# Altium footprint library Conn.Molex.PcbLib: 79 footprints (part 5 of 5)
Each footprint in its own frame and in the unit in brackets; x right, y up, seen from the top. Pads: shape width x height; smd on the part's side, far side on the other; paste and mask are expansions set on the pad; w line width, h text height; cw(c..) or ccw(c..) is an arc to the next point about the centre after c.
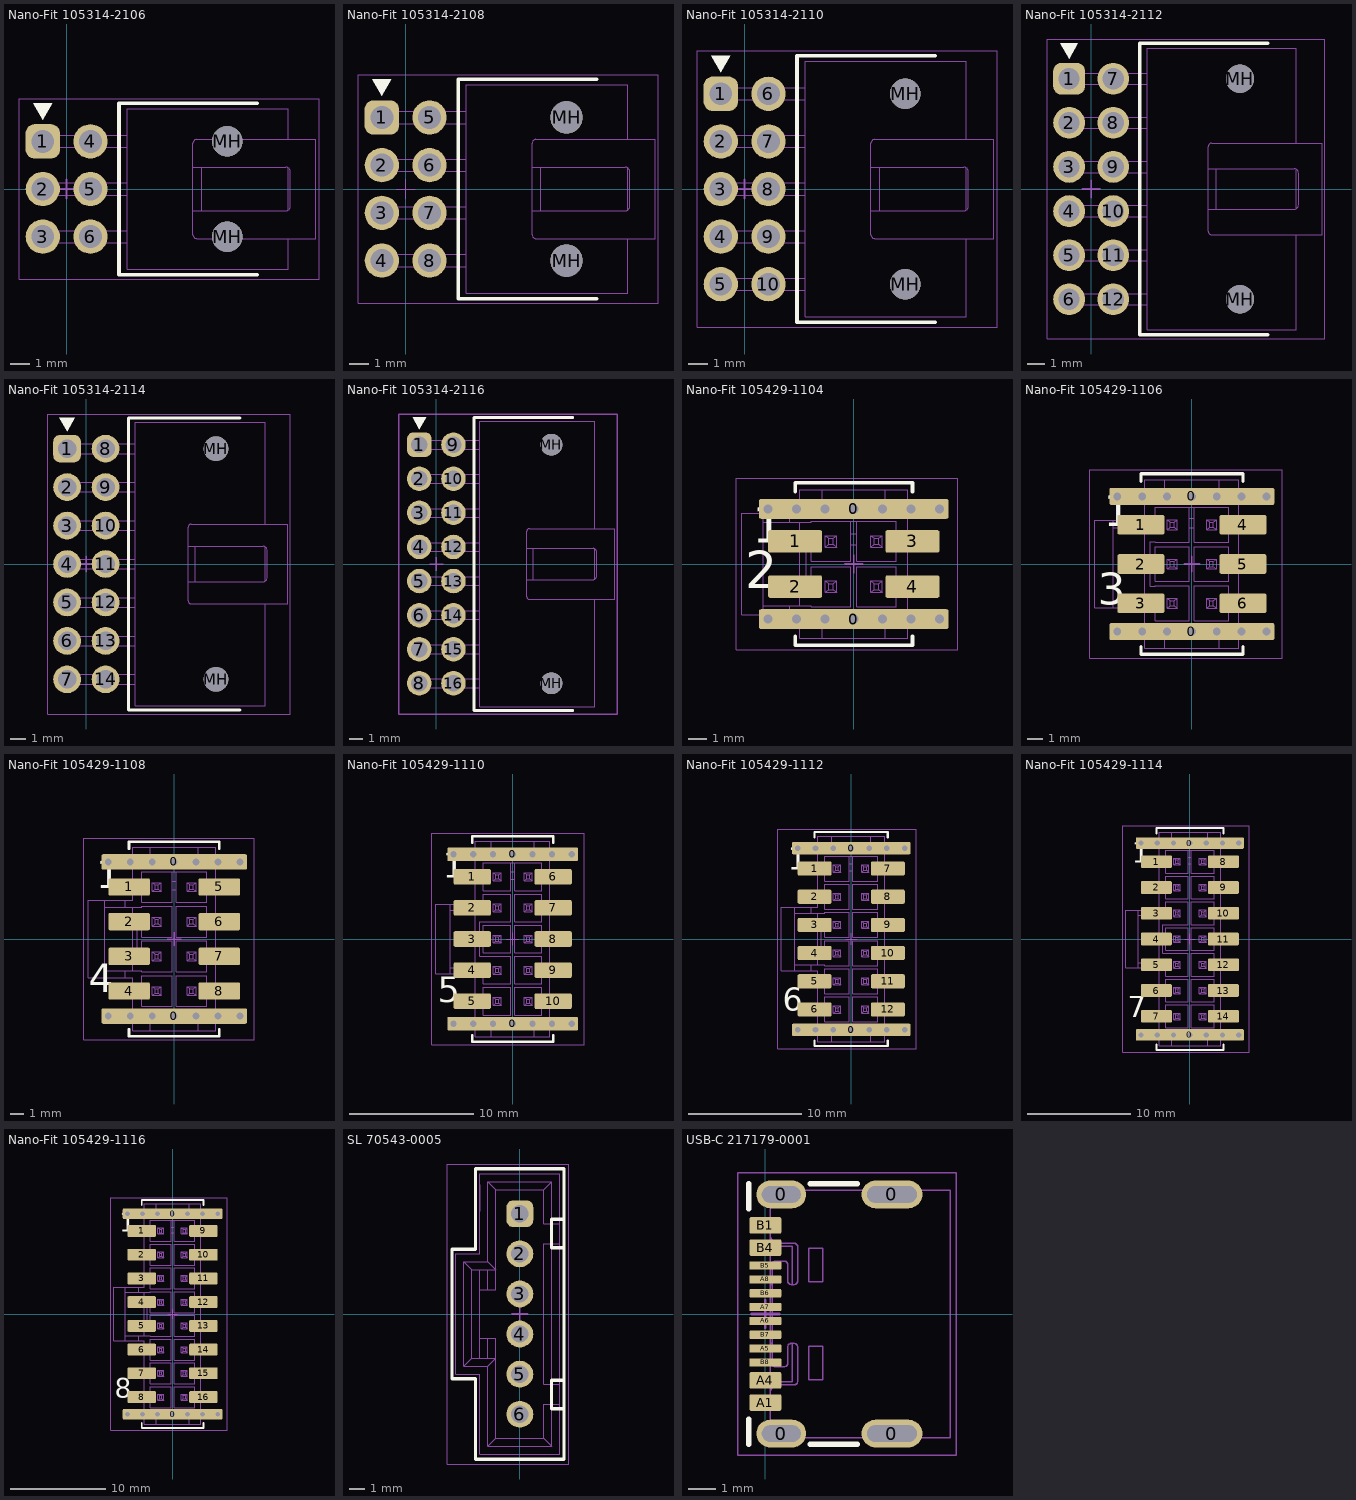
[diagram p4: the footprints below, top view; thin cyan lines are the x and y axes]

## Nano-Fit 105314-2106 [mm] "Nano-Fit Header, Dual Row, 6-Lead, 2.50mm Pitch"
height 9.14
pads (8):
  rrect50% 1.8x1.8 hole 1.2: 1(-1.25,2.5)
  round 1.8 hole 1.2: 2(-1.25,0) 3(-1.25,-2.5) 4(1.25,2.5) 5(1.25,0) 6(1.25,-2.5)
  round 1.6 hole 1.6 unplated: MH(8.43,-2.5) MH(8.43,2.5)
Top Overlay:
  region: -1.25,3.634 -0.75,4.5 -1.75,4.5
  lines w0.2: 10,-4.5 2.75,-4.5 2.75,4.5 10,4.5
Mechanical 1:
  lines w0.05: -0.633,-2.818 -0.633,-2.183 ; -0.633,-0.318 -0.633,0.318 ; -0.633,2.183 -0.633,2.818 ; 3.17,-2.818 -1.568,-2.818 -1.568,-2.183 3.17,-2.183 ; 3.17,-0.318 -1.568,-0.318 -1.568,0.318 3.17,0.318 ; 3.17,2.183 -1.568,2.183 -1.568,2.818 3.17,2.818 ; 6.63,-1.15 11.5,-1.15 ccw(c11.5,-0.9) 11.75,-0.9 11.75,0.9 ccw(c11.5,0.9) 11.5,1.15 6.63,1.15 ; 7.09,-1.15 7.09,1.15 ; 11.63,-2.6 11.63,-4.22 3.17,-4.22 3.17,4.22 11.63,4.22 11.63,2.6 ; 11.63,-1.114 11.63,1.114 ; 6.63,-2.4 ccw(c6.83,-2.4) 6.83,-2.6 13.09,-2.6 13.09,2.6 6.83,2.6 ccw(c6.83,2.4) 6.63,2.4 6.63,-2.4
Mechanical 15:
  lines w0.05: -2.5,-4.75 13.25,-4.75 13.25,4.75 -2.5,4.75 -2.5,-4.75
  lines w0.1: -0.5,0 0.5,0 ; 0,-0.5 0,0.5
3D body "Nano-Fit 105314-2106.stp": height 9.14, standoff -3.2, extent -1.567,-4.22 13.09,4.22

## Nano-Fit 105314-2108 [mm] "Molex Nano-Fit Header, 8-Pin, 2.5mm Pitch"
height 9.14
pads (10):
  rrect50% 1.8x1.8 hole 1.2: 1(-1.25,3.75)
  round 1.8 hole 1.2: 2(-1.25,1.25) 3(-1.25,-1.25) 4(-1.25,-3.75) 5(1.25,3.75) 6(1.25,1.25) 7(1.25,-1.25) 8(1.25,-3.75)
  round 1.7 hole 1.7 unplated: MH(8.43,-3.75) MH(8.43,3.75)
Top Overlay:
  region: -1.25,4.884 -0.75,5.75 -1.75,5.75
  lines w0.2: 10,-5.75 2.75,-5.75 2.75,5.75 10,5.75
Mechanical 1:
  lines w0.05: -0.632,-4.067 -0.632,-3.432 ; -0.632,-1.567 -0.632,-0.932 ; -0.632,0.933 -0.632,1.568 ; -0.632,3.433 -0.632,4.068 ; 3.17,-4.067 -1.567,-4.067 -1.567,-3.432 3.17,-3.432 ; 3.17,-1.567 -1.567,-1.567 -1.567,-0.932 3.17,-0.932 ; 3.17,0.933 -1.567,0.933 -1.567,1.568 3.17,1.568 ; 3.17,3.433 -1.567,3.433 -1.567,4.068 3.17,4.068 ; 6.63,-1.15 11.5,-1.15 ccw(c11.5,-0.9) 11.75,-0.9 11.75,0.9 ccw(c11.5,0.9) 11.5,1.15 6.63,1.15 ; 7.09,-1.15 7.09,1.15 ; 11.63,-2.6 11.63,-5.47 3.17,-5.47 3.17,5.47 11.63,5.47 11.63,2.6 ; 11.63,-1.113 11.63,1.114 ; 6.63,-2.4 ccw(c6.83,-2.4) 6.83,-2.6 13.09,-2.6 13.09,2.6 6.83,2.6 ccw(c6.83,2.4) 6.63,2.4 6.63,-2.4
Mechanical 15:
  lines w0.05: -0.5,0 0.5,0 ; 0,-0.5 0,0.5 ; -2.5,-6 -2.5,6 13.225,6 13.225,-6 -2.5,-6
3D body "Nano-Fit 105314-2108.stp": height 9.14, standoff -3.2, extent -1.567,-5.47 13.09,5.47

## Nano-Fit 105314-2110 [mm] "Nano-Fit Header, Dual Row, 10-Lead, 2.50mm Pitch"
height 9.14
pads (12):
  rrect50% 1.8x1.8 hole 1.2: 1(-1.25,5)
  round 1.8 hole 1.2: 2(-1.25,2.5) 3(-1.25,0) 4(-1.25,-2.5) 5(-1.25,-5) 6(1.25,5) 7(1.25,2.5) 8(1.25,0) 9(1.25,-2.5) 10(1.25,-5)
  round 1.6 hole 1.6 unplated: MH(8.43,-5) MH(8.43,5)
Top Overlay:
  region: -1.25,6.134 -0.75,7 -1.75,7
  lines w0.2: 10,-7 2.75,-7 2.75,7 10,7
Mechanical 1:
  lines w0.05: -0.633,-5.318 -0.633,-4.683 ; -0.633,-2.818 -0.633,-2.183 ; -0.633,-0.318 -0.633,0.318 ; -0.633,2.183 -0.633,2.818 ; -0.633,4.683 -0.633,5.318 ; 3.17,-5.318 -1.568,-5.318 -1.568,-4.683 3.17,-4.683 ; 3.17,-2.818 -1.568,-2.818 -1.568,-2.183 3.17,-2.183 ; 3.17,-0.318 -1.568,-0.318 -1.568,0.318 3.17,0.318 ; 3.17,2.183 -1.568,2.183 -1.568,2.818 3.17,2.818 ; 3.17,4.683 -1.568,4.683 -1.568,5.318 3.17,5.318 ; 6.63,-1.15 11.5,-1.15 ccw(c11.5,-0.9) 11.75,-0.9 11.75,0.9 ccw(c11.5,0.9) 11.5,1.15 6.63,1.15 ; 7.09,-1.15 7.09,1.15 ; 11.63,-2.6 11.63,-6.72 3.17,-6.72 3.17,6.72 11.63,6.72 11.63,2.6 ; 11.63,-1.114 11.63,1.114 ; 6.63,-2.4 ccw(c6.83,-2.4) 6.83,-2.6 13.09,-2.6 13.09,2.6 6.83,2.6 ccw(c6.83,2.4) 6.63,2.4 6.63,-2.4
Mechanical 15:
  lines w0.05: -2.5,-7.25 13.25,-7.25 13.25,7.25 -2.5,7.25 -2.5,-7.25
  lines w0.1: -0.5,0 0.5,0 ; 0,-0.5 0,0.5
3D body "Nano-Fit 105314-2110.stp": height 9.14, standoff -3.2, extent -1.567,-6.72 13.09,6.72

## Nano-Fit 105314-2112 [mm] "Nano-Fit Header, Dual Row, 12-Lead, 2.50mm Pitch"
height 9.14
pads (14):
  rrect50% 1.8x1.8 hole 1.2: 1(-1.25,6.25)
  round 1.8 hole 1.2: 2(-1.25,3.75) 3(-1.25,1.25) 4(-1.25,-1.25) 5(-1.25,-3.75) 6(-1.25,-6.25) 7(1.25,6.25) 8(1.25,3.75) 9(1.25,1.25) 10(1.25,-1.25) 11(1.25,-3.75) 12(1.25,-6.25)
  round 1.6 hole 1.6 unplated: MH(8.43,-6.25) MH(8.43,6.25)
Top Overlay:
  region: -1.25,7.384 -0.75,8.25 -1.75,8.25
  lines w0.2: 10,-8.25 2.75,-8.25 2.75,8.25 10,8.25
Mechanical 1:
  lines w0.05: -0.632,-6.567 -0.632,-5.932 ; -0.632,-4.067 -0.632,-3.432 ; -0.632,-1.567 -0.632,-0.932 ; -0.632,0.933 -0.632,1.568 ; -0.632,3.433 -0.632,4.068 ; -0.632,5.933 -0.632,6.568 ; 3.17,-6.567 -1.567,-6.567 -1.567,-5.932 3.17,-5.932 ; 3.17,-4.067 -1.567,-4.067 -1.567,-3.432 3.17,-3.432 ; 3.17,-1.567 -1.567,-1.567 -1.567,-0.932 3.17,-0.932 ; 3.17,0.933 -1.567,0.933 -1.567,1.568 3.17,1.568 ; 3.17,3.433 -1.567,3.433 -1.567,4.068 3.17,4.068 ; 3.17,5.933 -1.567,5.933 -1.567,6.568 3.17,6.568 ; 6.63,-1.15 11.5,-1.15 ccw(c11.5,-0.9) 11.75,-0.9 11.75,0.9 ccw(c11.5,0.9) 11.5,1.15 6.63,1.15 ; 7.09,-1.15 7.09,1.15 ; 11.63,-2.6 11.63,-7.97 3.17,-7.97 3.17,7.97 11.63,7.97 11.63,2.6 ; 11.63,-1.113 11.63,1.114 ; 6.63,-2.4 ccw(c6.83,-2.4) 6.83,-2.6 13.09,-2.6 13.09,2.6 6.83,2.6 ccw(c6.83,2.4) 6.63,2.4 6.63,-2.4
Mechanical 15:
  lines w0.05: -2.5,-8.5 13.25,-8.5 13.25,8.5 -2.5,8.5 -2.5,-8.5
  lines w0.1: -0.5,0 0.5,0 ; 0,-0.5 0,0.5
3D body "Nano-Fit 105314-2112.stp": height 9.14, standoff -3.2, extent -1.567,-7.97 13.09,7.97

## Nano-Fit 105314-2114 [mm] "Nano-Fit Header, Dual Row, 14-Lead, 2.50mm Pitch"
height 9.14
pads (16):
  rrect50% 1.8x1.8 hole 1.2: 1(-1.25,7.5)
  round 1.8 hole 1.2: 2(-1.25,5) 3(-1.25,2.5) 4(-1.25,0) 5(-1.25,-2.5) 6(-1.25,-5) 7(-1.25,-7.5) 8(1.25,7.5) 9(1.25,5) 10(1.25,2.5) 11(1.25,0) 12(1.25,-2.5) 13(1.25,-5) 14(1.25,-7.5)
  round 1.6 hole 1.6 unplated: MH(8.43,-7.5) MH(8.43,7.5)
Top Overlay:
  region: -1.25,8.634 -0.75,9.5 -1.75,9.5
  lines w0.2: 10,-9.5 2.75,-9.5 2.75,9.5 10,9.5
Mechanical 1:
  lines w0.05: -0.633,-7.818 -0.633,-7.183 ; -0.633,-5.318 -0.633,-4.683 ; -0.633,-2.818 -0.633,-2.183 ; -0.633,-0.318 -0.633,0.318 ; -0.633,2.183 -0.633,2.818 ; -0.633,4.683 -0.633,5.318 ; -0.633,7.183 -0.633,7.818 ; 3.17,-7.818 -1.568,-7.818 -1.568,-7.183 3.17,-7.183 ; 3.17,-5.318 -1.568,-5.318 -1.568,-4.683 3.17,-4.683 ; 3.17,-2.818 -1.568,-2.818 -1.568,-2.183 3.17,-2.183 ; 3.17,-0.318 -1.568,-0.318 -1.568,0.318 3.17,0.318 ; 3.17,2.183 -1.568,2.183 -1.568,2.818 3.17,2.818 ; 3.17,4.683 -1.568,4.683 -1.568,5.318 3.17,5.318 ; 3.17,7.183 -1.568,7.183 -1.568,7.818 3.17,7.818 ; 6.63,-1.15 11.5,-1.15 ccw(c11.5,-0.9) 11.75,-0.9 11.75,0.9 ccw(c11.5,0.9) 11.5,1.15 6.63,1.15 ; 7.09,-1.15 7.09,1.15 ; 11.63,-2.6 11.63,-9.22 3.17,-9.22 3.17,9.22 11.63,9.22 11.63,2.6 ; 11.63,-1.114 11.63,1.114 ; 6.63,-2.4 ccw(c6.83,-2.4) 6.83,-2.6 13.09,-2.6 13.09,2.6 6.83,2.6 ccw(c6.83,2.4) 6.63,2.4 6.63,-2.4
Mechanical 15:
  lines w0.05: -2.5,-9.75 13.25,-9.75 13.25,9.75 -2.5,9.75 -2.5,-9.75
  lines w0.1: -0.5,0 0.5,0 ; 0,-0.5 0,0.5
3D body "Nano-Fit 105314-2114.stp": height 9.14, standoff -3.2, extent -1.567,-9.22 13.09,9.22

## Nano-Fit 105314-2116 [mm] "Molex Nano-Fit Header, 16-Pin, 2.5mm Pitch"
height 9.14
pads (18):
  rrect50% 1.8x1.8 hole 1.2: 1(-1.25,8.75)
  round 1.8 hole 1.2: 2(-1.25,6.25) 3(-1.25,3.75) 4(-1.25,1.25) 5(-1.25,-1.25) 6(-1.25,-3.75) 7(-1.25,-6.25) 8(-1.25,-8.75) 9(1.25,8.75) 10(1.25,6.25) 11(1.25,3.75) 12(1.25,1.25) 13(1.25,-1.25) 14(1.25,-3.75) 15(1.25,-6.25) 16(1.25,-8.75)
  round 1.6 hole 1.6 unplated: MH(8.43,-8.75) MH(8.43,8.75)
Top Overlay:
  region: -1.25,9.884 -0.75,10.75 -1.75,10.75
  lines w0.2: 10,-10.75 2.75,-10.75 2.75,10.75 10,10.75
Mechanical 1:
  lines w0.05: 3.17,-9.068 -0.633,-9.068 -1.568,-9.068 -1.568,-8.433 -0.633,-8.433 3.17,-8.433 ; 3.17,-6.568 -0.633,-6.568 -1.568,-6.568 -1.568,-5.933 -0.633,-5.933 3.17,-5.933 ; 3.17,-4.068 -0.633,-4.068 -1.568,-4.068 -1.568,-3.433 -0.633,-3.433 3.17,-3.433 ; 3.17,-1.568 -0.633,-1.568 -1.568,-1.568 -1.568,-0.933 -0.633,-0.933 3.17,-0.933 ; 3.17,0.933 -0.633,0.933 -1.568,0.933 -1.568,1.568 -0.633,1.568 3.17,1.568 ; 3.17,3.433 -0.633,3.433 -1.568,3.433 -1.568,4.068 -0.633,4.068 3.17,4.068 ; 3.17,5.933 -0.633,5.933 -1.568,5.933 -1.568,6.568 -0.633,6.568 3.17,6.568 ; 3.17,8.433 -0.633,8.433 -1.568,8.433 -1.568,9.068 -0.633,9.068 3.17,9.068 ; 7.09,-1.15 7.09,1.15 ; 11.63,-2.6 11.63,-10.47 3.17,-10.47 3.17,10.47 11.63,10.47 11.63,2.6 ; 11.63,-1.114 11.63,1.114 ; 6.63,-1.15 6.83,-1.15 11.5,-1.15 ccw(c11.5,-0.9) 11.75,-0.9 11.75,0.9 ccw(c11.5,0.9) 11.5,1.15 6.83,1.15 6.63,1.15 ; 6.63,-1.15 6.63,1.15 ; 6.63,-1.15 6.63,-2.4 ccw(c6.83,-2.4) 6.83,-2.6 13.09,-2.6 13.09,-2.4 13.09,2.4 13.09,2.6 6.83,2.6 ccw(c6.83,2.4) 6.63,2.4 6.63,1.15
Mechanical 15:
  lines w0.1: -0.5,0 0.5,0 ; 0,-0.5 0,0.5 ; -2.75,-11 13.25,-11 13.25,11 -2.75,11 -2.75,-11
3D body "Nano-Fit 105314-2116.stp": height 9.15, standoff -3.19, extent -1.567,-10.47 13.09,10.47

## Nano-Fit 105429-1104 [mm] "Molex Nano-Fit Header, 4-Pin, 2.5mm Pitch"
height 9.7
pads (6):
  rrect20% 10.5x1.1 smd: 0(0,-3.055) 0(0,3.055)
  rrect20% 3x1.25 smd: 1(-3.25,1.25) 2(-3.25,-1.25) 3(3.25,1.25) 4(3.25,-1.25)
via 4.75,3.055 diameter 1 hole 0.5
via -4.75,3.055 diameter 1 hole 0.5
via 0,3.055 diameter 1 hole 0.5
via 3.167,3.055 diameter 1 hole 0.5
via 1.583,3.055 diameter 1 hole 0.5
via -3.167,3.055 diameter 1 hole 0.5
via -1.583,3.055 diameter 1 hole 0.5
via 4.75,-3.055 diameter 1 hole 0.5
via -4.75,-3.055 diameter 1 hole 0.5
via 0,-3.055 diameter 1 hole 0.5
via 3.167,-3.055 diameter 1 hole 0.5
via 1.583,-3.055 diameter 1 hole 0.5
via -3.167,-3.055 diameter 1 hole 0.5
via -1.583,-3.055 diameter 1 hole 0.5
Top Overlay:
  lines w0.2: -3.25,-4 -3.25,-4.5 3.25,-4.5 3.25,-4 ; -3.25,4 -3.25,4.5 3.25,4.5 3.25,4
  text "2" at -6.011,-2.022 h3.5
  text "1" at -5.629,0.487 h3.5
Mechanical 1:
  lines w0.05: -5,-2.8 -5,2.8 ; -5,-2.3 -2.345,-2.3 -2.345,-2.36 -0.155,-2.36 -0.155,-0.14 -2.345,-0.14 -2.345,-1.33 -2.645,-1.33 -2.645,1.33 -2.345,1.33 -2.345,0.14 -0.155,0.14 -0.155,2.36 ; -5,2.3 -2.345,2.3 -2.345,2.36 2.345,2.36 2.345,0.14 0.155,0.14 0.155,2.36 ; -4.35,-3.305 -4.35,-2.805 ; -4.35,2.805 -4.35,3.305 ; -4.05,-1.568 -4.05,-0.933 ; -4.05,0.933 -4.05,1.568 ; -3.54,-2.8 -3.54,-2.3 ; -3.54,2.3 -3.54,2.8 ; -2.99,-3.305 -4.55,-3.305 -4.55,-2.805 -2.99,-2.805 ; -2.99,-3 -1.74,-3 -1.74,-4.115 ; -2.99,-2.3 -2.99,2.3 ; -2.99,-1.568 -4.25,-1.568 -4.25,-0.933 -2.99,-0.933 ; -2.99,0.933 -4.25,0.933 -4.25,1.568 -2.99,1.568 ; -2.99,2.805 -4.55,2.805 -4.55,3.305 -2.99,3.305 ; -2.99,3 -1.74,3 -1.74,4.115 ; -0.155,1.065 0.155,1.065 ; -0.155,1.665 0.155,1.665 ; 1.74,-4.115 1.74,-3 2.99,-3 ; 1.74,4.115 1.74,3 2.99,3 ; 2.99,-3.305 4.55,-3.305 4.55,-2.805 2.99,-2.805 ; 2.99,-1.568 4.25,-1.568 4.25,-0.933 2.99,-0.933 ; 2.99,0.933 4.25,0.933 4.25,1.568 2.99,1.568 ; 2.99,2.805 4.55,2.805 4.55,3.305 2.99,3.305 ; 4.05,-1.568 4.05,-0.933 ; 4.05,0.933 4.05,1.568 ; 4.35,-3.305 4.35,-2.805 ; 4.35,2.805 4.35,3.305 ; -1.572,-1.568 -1.572,-0.933 ; -1.572,-1.568 -0.933,-1.568 ; -1.572,-1.568 -1.372,-1.418 ; -1.572,-0.933 -0.933,-0.933 ; -1.572,-0.933 -1.372,-1.082 ; -1.572,0.933 -1.572,1.568 ; -1.572,0.933 -0.933,0.933 ; -1.572,0.933 -1.372,1.082 ; -1.572,1.568 -0.933,1.568 ; -1.572,1.568 -1.372,1.418 ; -1.372,-1.418 -1.372,-1.082 ; -1.372,-1.418 -1.132,-1.418 ; -1.372,-1.082 -1.132,-1.082 ; -1.372,1.082 -1.372,1.418 ; -1.372,1.082 -1.132,1.082 ; -1.372,1.418 -1.132,1.418 ; -1.132,-1.418 -1.132,-1.082 ; -1.132,-1.418 -0.933,-1.568 ; -1.132,-1.082 -0.933,-0.933 ; -1.132,1.082 -1.132,1.418 ; -1.132,1.082 -0.933,0.933 ; -1.132,1.418 -0.933,1.568 ; -0.933,-1.568 -0.933,-0.933 ; -0.933,0.933 -0.933,1.568 ; 0.933,-1.568 1.572,-1.568 ; 0.933,-1.568 0.933,-0.933 ; 0.933,-1.568 1.132,-1.418 ; 0.933,-0.933 1.572,-0.933 ; 0.933,-0.933 1.132,-1.082 ; 0.933,0.933 1.572,0.933 ; 0.933,0.933 0.933,1.568 ; 0.933,0.933 1.132,1.082 ; 0.933,1.568 1.572,1.568 ; 0.933,1.568 1.132,1.418 ; 1.132,-1.418 1.132,-1.082 ; 1.132,-1.418 1.372,-1.418 ; 1.132,-1.082 1.372,-1.082 ; 1.132,1.082 1.132,1.418 ; 1.132,1.082 1.372,1.082 ; 1.132,1.418 1.372,1.418 ; 1.372,-1.418 1.572,-1.568 ; 1.372,-1.418 1.372,-1.082 ; 1.372,-1.082 1.572,-0.933 ; 1.372,1.082 1.572,0.933 ; 1.372,1.082 1.372,1.418 ; 1.372,1.418 1.572,1.568 ; 1.572,-1.568 1.572,-0.933 ; 1.572,0.933 1.572,1.568 ; -6.2,-2.8 -6.2,2.8 -2.99,2.8 -2.99,4.115 2.99,4.115 2.99,-4.115 -2.99,-4.115 -2.99,-2.8 -6.2,-2.8 ; 0.155,-2.36 0.155,-0.14 2.345,-0.14 2.345,-2.36 0.155,-2.36
Mechanical 15:
  lines w0.05: -6.5,-4.75 -6.5,4.75 5.75,4.75 5.75,-4.75 -6.5,-4.75
  lines w0.1: -0.5,0 0.5,0 ; 0,-0.5 0,0.5
3D body "Nano-Fit 105429-1104.stp": height 11.16, standoff 0, extent -6.2,-4.115 4.55,4.115

## Nano-Fit 105429-1106 [mm] "Molex Nano-Fit Header, 6-Pin, 2.5mm Pitch"
height 9.7
pads (8):
  rrect20% 10.5x1.1 smd: 0(0,-4.305) 0(0,4.305)
  rrect20% 3x1.25 smd: 1(-3.25,2.5) 2(-3.25,0) 3(-3.25,-2.5) 4(3.25,2.5) 5(3.25,0) 6(3.25,-2.5)
via -1.583,-4.305 diameter 1 hole 0.5
via -3.167,-4.305 diameter 1 hole 0.5
via 1.583,-4.305 diameter 1 hole 0.5
via 3.167,-4.305 diameter 1 hole 0.5
via 0,-4.305 diameter 1 hole 0.5
via -4.75,-4.305 diameter 1 hole 0.5
via 4.75,-4.305 diameter 1 hole 0.5
via -1.583,4.305 diameter 1 hole 0.5
via -3.167,4.305 diameter 1 hole 0.5
via 1.583,4.305 diameter 1 hole 0.5
via 3.167,4.305 diameter 1 hole 0.5
via 0,4.305 diameter 1 hole 0.5
via -4.75,4.305 diameter 1 hole 0.5
via 4.75,4.305 diameter 1 hole 0.5
Top Overlay:
  lines w0.2: -3.25,-5.25 -3.25,-5.75 3.25,-5.75 3.25,-5.25 ; -3.25,5.25 -3.25,5.75 3.25,5.75 3.25,5.25
  text "1" at -5.629,1.737 h3.5
  text "3" at -6.008,-3.264 h3.5
Mechanical 1:
  drawing of 168 lines, arcs and shapes, not listed
Mechanical 15:
  lines w0.05: -6.5,-6 5.75,-6 5.75,6 -6.5,6 -6.5,-6
  lines w0.1: -0.5,0 0.5,0 ; 0,-0.5 0,0.5
3D body "Nano-Fit 105429-1106.stp": height 11.16, standoff 0, extent -6.2,-5.365 4.55,5.365

## Nano-Fit 105429-1108 [mm] "Molex Nano-Fit Header, 8-Pin, 2.5mm Pitch"
height 9.7
pads (10):
  rrect20% 10.5x1.1 smd: 0(0,-5.555) 0(0,5.555)
  rrect20% 3x1.25 smd: 1(-3.25,3.75) 2(-3.25,1.25) 3(-3.25,-1.25) 4(-3.25,-3.75) 5(3.25,3.75) 6(3.25,1.25) 7(3.25,-1.25) 8(3.25,-3.75)
via -1.583,-5.555 diameter 1 hole 0.5
via -3.167,-5.555 diameter 1 hole 0.5
via 1.583,-5.555 diameter 1 hole 0.5
via 3.167,-5.555 diameter 1 hole 0.5
via 0,-5.555 diameter 1 hole 0.5
via -4.75,-5.555 diameter 1 hole 0.5
via 4.75,-5.555 diameter 1 hole 0.5
via -1.583,5.555 diameter 1 hole 0.5
via -3.167,5.555 diameter 1 hole 0.5
via 1.583,5.555 diameter 1 hole 0.5
via 3.167,5.555 diameter 1 hole 0.5
via 0,5.555 diameter 1 hole 0.5
via -4.75,5.555 diameter 1 hole 0.5
via 4.75,5.555 diameter 1 hole 0.5
Top Overlay:
  lines w0.2: -3.25,-6.5 -3.25,-7 3.25,-7 3.25,-6.5 ; -3.25,6.5 -3.25,7 3.25,7 3.25,6.5
  text "1" at -5.629,2.987 h3.5
  text "4" at -6.141,-4.513 h3.5
Mechanical 1:
  drawing of 204 lines, arcs and shapes, not listed
Mechanical 15:
  lines w0.05: -6.5,-7.25 5.75,-7.25 5.75,7.25 -6.5,7.25 -6.5,-7.25
  lines w0.1: -0.5,0 0.5,0 ; 0,-0.5 0,0.5
3D body "Nano-Fit 105429-1108.stp": height 11.16, standoff 0, extent -6.2,-6.615 4.55,6.615

## Nano-Fit 105429-1110 [mm] "Molex Nano-Fit Header, 10-Pin, 2.5mm Pitch"
height 9.7
pads (12):
  rrect20% 10.5x1.1 smd: 0(0,-6.805) 0(0,6.805)
  rrect20% 3x1.25 smd: 1(-3.25,5) 2(-3.25,2.5) 3(-3.25,0) 4(-3.25,-2.5) 5(-3.25,-5) 6(3.25,5) 7(3.25,2.5) 8(3.25,0) 9(3.25,-2.5) 10(3.25,-5)
via 4.75,6.805 diameter 1 hole 0.5
via -4.75,6.805 diameter 1 hole 0.5
via 0,6.805 diameter 1 hole 0.5
via 3.167,6.805 diameter 1 hole 0.5
via 1.583,6.805 diameter 1 hole 0.5
via -3.167,6.805 diameter 1 hole 0.5
via -1.583,6.805 diameter 1 hole 0.5
via 4.75,-6.805 diameter 1 hole 0.5
via -4.75,-6.805 diameter 1 hole 0.5
via 0,-6.805 diameter 1 hole 0.5
via 3.167,-6.805 diameter 1 hole 0.5
via 1.583,-6.805 diameter 1 hole 0.5
via -3.167,-6.805 diameter 1 hole 0.5
via -1.583,-6.805 diameter 1 hole 0.5
Top Overlay:
  lines w0.2: -3.25,-7.75 -3.25,-8.25 3.25,-8.25 3.25,-7.75 ; -3.25,7.75 -3.25,8.25 3.25,8.25 3.25,7.75
  text "5" at -6.011,-5.755 h3.5
  text "1" at -5.629,4.237 h3.5
Mechanical 1:
  drawing of 248 lines, arcs and shapes, not listed
Mechanical 15:
  lines w0.05: -6.5,-8.5 -6.5,8.5 5.75,8.5 5.75,-8.5 -6.5,-8.5
  lines w0.1: -0.5,0 0.5,0 ; 0,-0.5 0,0.5
3D body "Nano-Fit 105429-1110.stp": height 11.16, standoff 0, extent -6.2,-7.865 4.55,7.865

## Nano-Fit 105429-1112 [mm] "Molex Nano-Fit Header, 12-Pin, 2.5mm Pitch"
height 9.7
pads (14):
  rrect20% 10.5x1.1 smd: 0(0,-8.055) 0(0,8.055)
  rrect20% 3x1.25 smd: 1(-3.25,6.25) 2(-3.25,3.75) 3(-3.25,1.25) 4(-3.25,-1.25) 5(-3.25,-3.75) 6(-3.25,-6.25) 7(3.25,6.25) 8(3.25,3.75) 9(3.25,1.25) 10(3.25,-1.25) 11(3.25,-3.75) 12(3.25,-6.25)
via 4.75,8.055 diameter 1 hole 0.5
via -4.75,8.055 diameter 1 hole 0.5
via 0,8.055 diameter 1 hole 0.5
via 3.167,8.055 diameter 1 hole 0.5
via 1.583,8.055 diameter 1 hole 0.5
via -3.167,8.055 diameter 1 hole 0.5
via -1.583,8.055 diameter 1 hole 0.5
via 4.75,-8.055 diameter 1 hole 0.5
via -4.75,-8.055 diameter 1 hole 0.5
via 0,-8.055 diameter 1 hole 0.5
via 3.167,-8.055 diameter 1 hole 0.5
via 1.583,-8.055 diameter 1 hole 0.5
via -3.167,-8.055 diameter 1 hole 0.5
via -1.583,-8.055 diameter 1 hole 0.5
Top Overlay:
  lines w0.2: -3.25,-9 -3.25,-9.5 3.25,-9.5 3.25,-9 ; -3.25,9 -3.25,9.5 3.25,9.5 3.25,9
  text "6" at -6.092,-7.014 h3.5
  text "1" at -5.629,5.487 h3.5
Mechanical 1:
  drawing of 284 lines, arcs and shapes, not listed
Mechanical 15:
  lines w0.05: -6.5,-9.75 -6.5,9.75 5.75,9.75 5.75,-9.75 -6.5,-9.75
  lines w0.1: -0.5,0 0.5,0 ; 0,-0.5 0,0.5
3D body "Nano-Fit 105429-1112.stp": height 11.16, standoff 0, extent -6.2,-9.115 4.55,9.115

## Nano-Fit 105429-1114 [mm] "Molex Nano-Fit Header, 14-Pin, 2.5mm Pitch"
height 9.7
pads (16):
  rrect20% 10.5x1.1 smd: 0(0,-9.305) 0(0,9.305)
  rrect20% 3x1.25 smd: 1(-3.25,7.5) 2(-3.25,5) 3(-3.25,2.5) 4(-3.25,0) 5(-3.25,-2.5) 6(-3.25,-5) 7(-3.25,-7.5) 8(3.25,7.5) 9(3.25,5) 10(3.25,2.5) 11(3.25,0) 12(3.25,-2.5) 13(3.25,-5) 14(3.25,-7.5)
via -1.583,-9.305 diameter 1 hole 0.5
via -3.167,-9.305 diameter 1 hole 0.5
via 1.583,-9.305 diameter 1 hole 0.5
via 3.167,-9.305 diameter 1 hole 0.5
via 0,-9.305 diameter 1 hole 0.5
via -4.75,-9.305 diameter 1 hole 0.5
via 4.75,-9.305 diameter 1 hole 0.5
via -1.583,9.305 diameter 1 hole 0.5
via -3.167,9.305 diameter 1 hole 0.5
via 1.583,9.305 diameter 1 hole 0.5
via 3.167,9.305 diameter 1 hole 0.5
via 0,9.305 diameter 1 hole 0.5
via -4.75,9.305 diameter 1 hole 0.5
via 4.75,9.305 diameter 1 hole 0.5
Top Overlay:
  lines w0.2: -3.25,-10.25 -3.25,-10.75 3.25,-10.75 3.25,-10.25 ; -3.25,10.25 -3.25,10.75 3.25,10.75 3.25,10.25
  text "1" at -5.629,6.737 h3.5
  text "7" at -6.021,-8.263 h3.5
Mechanical 1:
  drawing of 328 lines, arcs and shapes, not listed
Mechanical 15:
  lines w0.05: -6.5,-11 5.75,-11 5.75,11 -6.5,11 -6.5,-11
  lines w0.1: -0.5,0 0.5,0 ; 0,-0.5 0,0.5
3D body "Nano-Fit 105429-1114.stp": height 11.16, standoff 0, extent -6.2,-10.365 4.55,10.365

## Nano-Fit 105429-1116 [mm] "Molex Nano-Fit Header, 16-Pin, 2.5mm Pitch"
height 9.7
pads (18):
  rrect20% 10.5x1.1 smd: 0(0,-10.555) 0(0,10.555)
  rrect20% 3x1.25 smd: 1(-3.25,8.75) 2(-3.25,6.25) 3(-3.25,3.75) 4(-3.25,1.25) 5(-3.25,-1.25) 6(-3.25,-3.75) 7(-3.25,-6.25) 8(-3.25,-8.75) 9(3.25,8.75) 10(3.25,6.25) 11(3.25,3.75) 12(3.25,1.25) 13(3.25,-1.25) 14(3.25,-3.75) 15(3.25,-6.25) 16(3.25,-8.75)
via 4.75,10.555 diameter 1 hole 0.5
via -4.75,10.555 diameter 1 hole 0.5
via 0,10.555 diameter 1 hole 0.5
via 3.167,10.555 diameter 1 hole 0.5
via 1.583,10.555 diameter 1 hole 0.5
via -3.167,10.555 diameter 1 hole 0.5
via -1.583,10.555 diameter 1 hole 0.5
via 4.75,-10.555 diameter 1 hole 0.5
via -4.75,-10.555 diameter 1 hole 0.5
via 0,-10.555 diameter 1 hole 0.5
via 3.167,-10.555 diameter 1 hole 0.5
via 1.583,-10.555 diameter 1 hole 0.5
via -3.167,-10.555 diameter 1 hole 0.5
via -1.583,-10.555 diameter 1 hole 0.5
Top Overlay:
  lines w0.2: -3.25,-11.5 -3.25,-12 3.25,-12 3.25,-11.5 ; -3.25,11.5 -3.25,12 3.25,12 3.25,11.5
  text "8" at -6.115,-9.514 h3.5
  text "1" at -5.629,7.987 h3.5
Mechanical 1:
  drawing of 364 lines, arcs and shapes, not listed
Mechanical 15:
  lines w0.05: -6.5,-12.25 -6.5,12.25 5.75,12.25 5.75,-12.25 -6.5,-12.25
  lines w0.1: -0.5,0 0.5,0 ; 0,-0.5 0,0.5
3D body "Nano-Fit 105429-1116.stp": height 11.16, standoff 0, extent -6.2,-11.615 4.55,11.615

## SL 70543-0005 [mm] "Molex SL Header, 6-Pin, 2.54mm Pitch"
height 11.85
pads (6):
  rrect50% 1.7x1.7 hole 1.1: 1(0,6.35)
  round 1.7 hole 1.1: 2(0,3.81) 3(0,1.27) 4(0,-1.27) 5(0,-3.81) 6(0,-6.35)
Top Overlay:
  lines w0.2: 2.8,-6 2,-6 2,-4.2 2.8,-4.2 ; 2.8,4.2 2,4.2 2,6 2.8,6 ; -4.3,-4.1 -2.8,-4.1 -2.8,-9.2 2.8,-9.2 2.8,9.2 -2.8,9.2 -2.8,4.1 -4.3,4.1 -4.3,-4.1
Bottom Overlay:
  region: 0,7.35 -0.5,8.216 0.5,8.216
Mechanical 1:
  lines w0.05: -2.54,-2.794 -2.54,2.794 ; -2.54,-1.524 -1.524,-1.524 -1.524,-7.874 ; -2.54,1.524 -1.524,1.524 -1.524,7.874 ; -2.54,6.553 -2.515,6.553 -2.515,8.179 -2.54,8.179 ; -2.54,7.366 -2.515,7.366 ; -2.032,-2.794 -2.032,-1.524 ; -2.032,1.524 -2.032,2.794 ; 2.032,-5.715 2.032,-8.382 ; 2.032,-4.445 2.032,4.445 ; 2.032,5.715 2.032,8.382 ; 2.54,-5.715 1.524,-5.715 1.524,-7.874 ; 2.54,-4.445 1.524,-4.445 1.524,4.445 2.54,4.445 ; 2.54,5.715 1.524,5.715 1.524,7.874 ; -3.556,-3.302 -3.048,-2.794 ; -3.556,-3.302 -2.032,-3.302 ; -3.556,-3.302 -3.556,3.302 ; -3.556,3.302 -2.032,3.302 ; -3.556,3.302 -3.048,2.794 ; -3.048,-2.794 -1.524,-2.794 -2.032,-3.302 ; -3.048,-2.794 -3.048,2.794 ; -3.048,2.794 -1.524,2.794 -2.032,3.302 ; -2.032,-8.382 2.032,-8.382 ; -2.032,-8.382 -2.032,-3.302 ; -2.032,-8.382 -1.524,-7.874 ; -2.032,3.302 -2.032,8.382 ; -2.032,8.382 2.032,8.382 ; -2.032,8.382 -1.524,7.874 ; -1.524,-7.874 1.524,-7.874 ; -1.524,7.874 1.524,7.874 ; -0.318,-6.667 -0.318,-6.032 ; -0.318,-6.667 -0.114,-6.464 ; -0.318,-6.667 0.318,-6.667 ; -0.318,-6.032 0.318,-6.032 ; -0.318,-6.032 -0.114,-6.236 ; -0.318,-4.127 0.318,-4.127 ; -0.318,-4.127 -0.318,-3.492 ; -0.318,-4.127 -0.114,-3.924 ; -0.318,-3.492 0.318,-3.492 ; -0.318,-3.492 -0.114,-3.696 ; -0.318,-1.587 -0.318,-0.953 ; -0.318,-1.587 -0.114,-1.384 ; -0.318,-1.587 0.318,-1.587 ; -0.318,-0.953 0.318,-0.953 ; -0.318,-0.953 -0.114,-1.156 ; -0.318,0.953 0.318,0.953 ; -0.318,0.953 -0.318,1.587 ; -0.318,0.953 -0.114,1.156 ; -0.318,1.587 0.318,1.587 ; -0.318,1.587 -0.114,1.384 ; -0.318,3.492 -0.318,4.127 ; -0.318,3.492 -0.114,3.696 ; -0.318,3.492 0.318,3.492 ; -0.318,4.127 0.318,4.127 ; -0.318,4.127 -0.114,3.924 ; -0.318,6.032 -0.318,6.667 ; -0.318,6.032 -0.114,6.236 ; -0.318,6.032 0.318,6.032 ; -0.318,6.667 0.318,6.667 ; -0.318,6.667 -0.114,6.464 ; -0.114,-6.464 -0.114,-6.236 ; -0.114,-6.464 0.114,-6.464 ; -0.114,-6.236 0.114,-6.236 ; -0.114,-3.924 0.114,-3.924 ; -0.114,-3.924 -0.114,-3.696 ; -0.114,-3.696 0.114,-3.696 ; -0.114,-1.384 -0.114,-1.156 ; -0.114,-1.384 0.114,-1.384 ; -0.114,-1.156 0.114,-1.156 ; -0.114,1.156 0.114,1.156 ; -0.114,1.156 -0.114,1.384 ; -0.114,1.384 0.114,1.384 ; -0.114,3.696 0.114,3.696 ; -0.114,3.696 -0.114,3.924 ; -0.114,3.924 0.114,3.924 ; -0.114,6.236 -0.114,6.464 ; -0.114,6.236 0.114,6.236 ; -0.114,6.464 0.114,6.464 ; 0.114,-6.464 0.114,-6.236 ; 0.114,-6.464 0.318,-6.667 ; 0.114,-6.236 0.318,-6.032 ; 0.114,-3.924 0.318,-4.127 ; 0.114,-3.924 0.114,-3.696 ; 0.114,-3.696 0.318,-3.492 ; 0.114,-1.384 0.114,-1.156 ; 0.114,-1.384 0.318,-1.587 ; 0.114,-1.156 0.318,-0.953 ; 0.114,1.156 0.114,1.384 ; 0.114,1.156 0.318,0.953 ; 0.114,1.384 0.318,1.587 ; 0.114,3.696 0.318,3.492 ; 0.114,3.696 0.114,3.924 ; 0.114,3.924 0.318,4.127 ; 0.114,6.236 0.114,6.464 ; 0.114,6.236 0.318,6.032 ; 0.114,6.464 0.318,6.667 ; 0.318,-6.667 0.318,-6.032 ; 0.318,-4.127 0.318,-3.492 ; 0.318,-1.587 0.318,-0.953 ; 0.318,0.953 0.318,1.587 ; 0.318,3.492 0.318,4.127 ; 0.318,6.032 0.318,6.667 ; 1.524,-7.874 2.032,-8.382 ; 1.524,7.874 2.032,8.382 ; -4.064,-3.81 -4.064,3.81 -2.54,3.81 -2.54,8.89 2.54,8.89 2.54,-8.89 -2.54,-8.89 -2.54,-3.81 -4.064,-3.81
Mechanical 15:
  lines w0.05: -4.6,-9.5 3.1,-9.5 3.1,9.5 -4.6,9.5 -4.6,-9.5
  lines w0.1: -0.5,0 0.5,0 ; 0,-0.5 0,0.5
3D body "SL 70543-0005.STEP": height 11.81, standoff -3.3, extent -4.064,-8.89 2.54,8.89

## USB-C 217179-0001 [mm] "USB Type C Socket, 16-Lead, Right-Angle Mount"
height 3.16
pads (16):
  oval 1.8x1 hole 0.6 slot 1.4 at 0 deg: 0(0.575,-4.32) 0(0.575,4.32)
  oval 2.2x1 hole 0.6 slot 1.8 at 0 deg: 0(4.575,-4.32) 0(4.575,4.32)
  rrect20% 1.15x0.6 smd: A1(0,-3.2) A4(0,-2.4) B1(0,3.2) B4(0,2.4)
  rrect20% 1.15x0.3 smd: A5(0,-1.25) A6(0,-0.25) A7(0,0.25) A8(0,1.25) B5(0,1.75) B6(0,0.75) B7(0,-0.75) B8(0,-1.75)
Top Overlay:
  lines w0.2: -0.6,-4.7 -0.6,-3.8 ; -0.6,3.8 -0.6,4.7 ; 1.625,-4.7 3.325,-4.7 ; 1.625,4.7 3.325,4.7
Mechanical 1:
  lines w0.05: 0.175,-3.424 -0.075,-3.424 -0.075,-3.224 0.175,-3.224 ; 0.175,-3.174 -0.075,-3.174 -0.075,-2.974 0.175,-2.974 ; 0.175,-2.859 cw(c0.475,-2.859) 0.475,-2.559 1.025,-2.559 ccw(c1.025,-2.409) 1.175,-2.409 1.175,-1.209 ccw(c1.025,-1.209) 1.025,-1.059 0.95,-1.059 ccw(c0.95,-1.209) 0.8,-1.209 0.8,-1.455 0.8,-1.816 0.797,-1.835 0.789,-1.853 0.775,-1.87 0.756,-1.884 0.733,-1.896 0.708,-1.905 0.679,-1.911 0.65,-1.912 0.4,-1.912 0.371,-1.911 0.343,-1.905 0.317,-1.896 0.294,-1.884 0.275,-1.87 0.262,-1.853 0.253,-1.835 0.25,-1.816 0.25,-1.455 0.25,-1.11 0.25,1.111 0.25,1.456 0.25,1.817 0.253,1.836 0.262,1.854 0.275,1.871 0.294,1.885 0.317,1.897 0.343,1.906 0.371,1.912 0.4,1.914 0.65,1.914 0.679,1.912 0.708,1.906 0.733,1.897 0.756,1.885 0.775,1.871 0.789,1.854 0.797,1.836 0.8,1.817 0.8,1.456 0.8,1.211 ccw(c0.95,1.211) 0.95,1.061 1.025,1.061 ccw(c1.025,1.211) 1.175,1.211 1.175,2.411 ccw(c1.025,2.411) 1.025,2.561 0.475,2.561 cw(c0.475,2.861) 0.175,2.861 ; 0.175,-2.699 0.221,-2.699 ; 0.175,-2.624 -0.075,-2.624 -0.075,-2.424 0.175,-2.424 ; 0.175,-2.449 0.978,-2.449 0.978,-1.059 ; 0.175,-2.374 -0.075,-2.374 -0.075,-2.174 0.175,-2.174 ; 0.175,-1.849 -0.075,-1.849 -0.075,-1.649 0.175,-1.649 ; 0.175,-1.349 -0.075,-1.349 -0.075,-1.149 0.175,-1.149 ; 0.175,-1.249 0.25,-1.249 ; 0.175,-1.049 0.25,-1.049 ; 0.175,-0.849 -0.075,-0.849 -0.075,-0.649 0.175,-0.649 ; 0.175,-0.349 -0.075,-0.349 -0.075,-0.149 0.175,-0.149 ; 0.175,0.151 -0.075,0.151 -0.075,0.351 0.175,0.351 ; 0.175,0.651 -0.075,0.651 -0.075,0.851 0.175,0.851 ; 0.175,1.051 0.25,1.051 ; 0.175,1.151 -0.075,1.151 -0.075,1.351 0.175,1.351 ; 0.175,1.251 0.25,1.251 ; 0.175,1.651 -0.075,1.651 -0.075,1.851 0.175,1.851 ; 0.175,2.176 -0.075,2.176 -0.075,2.376 0.175,2.376 ; 0.175,2.426 -0.075,2.426 -0.075,2.626 0.175,2.626 ; 0.175,2.451 0.978,2.451 0.978,1.061 ; 0.175,2.701 0.221,2.701 ; 0.175,2.976 -0.075,2.976 -0.075,3.176 0.175,3.176 ; 0.175,3.226 -0.075,3.226 -0.075,3.426 0.175,3.426 ; 0.175,-4.469 6.675,-4.469 6.675,4.471 0.175,4.471 0.175,-4.469 ; 1.575,-2.383 1.575,-1.168 2.075,-1.168 2.075,-2.383 1.575,-2.383 ; 1.575,1.168 1.575,2.383 2.075,2.383 2.075,1.168 1.575,1.168
Mechanical 15:
  lines w0.05: -1,-5.1 -1,5.1 6.9,5.1 6.9,-5.1 -1,-5.1
  lines w0.1: -0.5,0 0.5,0 ; 0,-0.5 0,0.5
3D body "USB-C 217179-0001.STEP": height 3.26, standoff -0.81, extent -0.075,-4.471 6.675,4.473